# Altium footprint library PCB1_sensor_mat_inso_v1 1.PcbLib: 2 footprints
Each footprint in its own frame and in the unit in brackets; x right, y up, seen from the top. Pads: shape width x height; smd on the part's side, far side on the other; paste and mask are expansions set on the pad; w line width, h text height; cw(c..) or ccw(c..) is an arc to the next point about the centre after c.
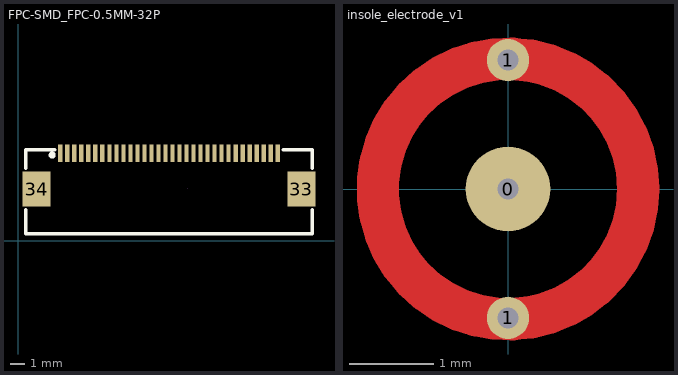
[diagram p0: the footprints below, top view; thin cyan lines are the x and y axes]

## FPC-SMD_FPC-0.5MM-32P [mm]
pads (34):
  rect 0.3x1.25 smd: 1(3.003,6.258) 2(3.503,6.258) 3(4.003,6.258) 4(4.503,6.258) 5(5.003,6.258) 6(5.503,6.258) 7(6.003,6.258) 8(6.503,6.258) 9(7.003,6.258) 10(7.503,6.258) 11(8.003,6.258) 12(8.503,6.258) 13(9.003,6.258) 14(9.503,6.258) 15(10.003,6.258) 16(10.503,6.258) 17(11.003,6.258) 18(11.503,6.258) 19(12.003,6.258) 20(12.503,6.258) 21(13.003,6.258) 22(13.503,6.258) 23(14.003,6.258) 24(14.503,6.258) 25(15.003,6.258) 26(15.503,6.258) 27(16.003,6.258) 28(16.503,6.258) 29(17.003,6.258) 30(17.503,6.258) 31(18.003,6.258) 32(18.503,6.258)
  rect 2x2.5 smd: 33(20.193,3.683) 34(1.313,3.683)
Top Overlay:
  circle w0.254: c2.427,6.113 r0.127
  lines w0.254: 0.553,2.202 0.553,0.512 20.953,0.512 20.953,2.202 ; 0.553,5.164 0.553,6.47 ; 0.553,6.495 2.622,6.495 ; 18.884,6.495 20.953,6.495 20.953,5.164
Mechanical 15:
  lines w0.003: 12.086,3.761 12.087,3.761

## insole_electrode_v1 [mm]
pads (3):
  round 1 hole 0.25: 0(0,0)
  round 0.5 hole 0.25: 1(0,-1.524) 1(0,1.524)
Top Layer:
  circle w0.5: c0,0 r1.54